# Altium integrated library Linear Technology Power Management Switching Regulator LTC1174-LTC3901.IntLib: 2647 symbols (part 46 of 364)
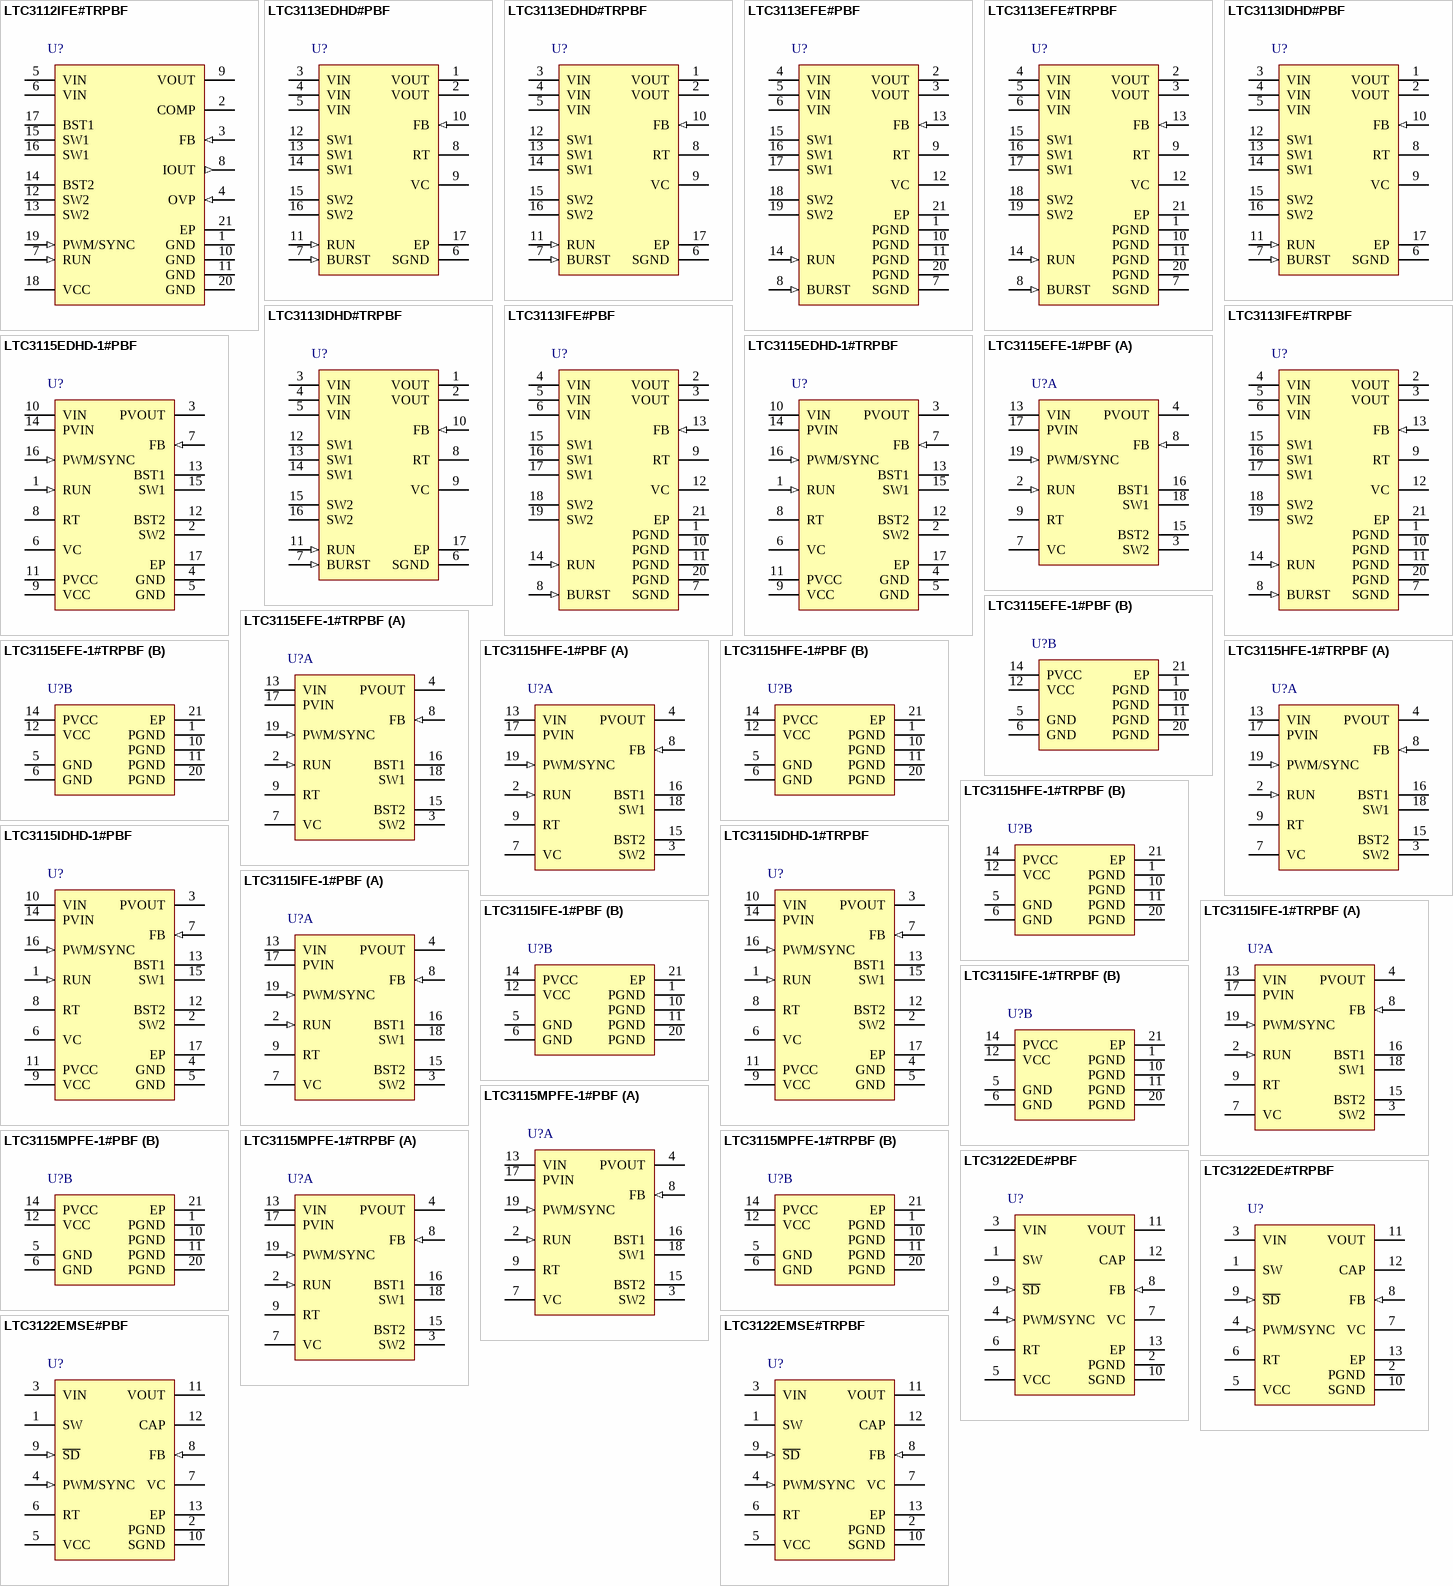
[diagram p139: symbols LTC3112IFE#TRPBF to LTC3122EMSE#TRPBF]

## LTC3113EDHD#PBF
designator U?
3 A Low Noise Buck-Boost DC/DC Converter, 16-pin SON (DHD-16), -40 to 125 degC, Pb-Free; Manufacturer: Linear Technology; PartNumber: LTC3113EDHD#PBF; Frequency Sync Range: 300kHz - 2MHz; Number of Outputs: 1; PackageVersion: Jun-10; PackageReference: DHD-16; PackageDescription: 16-Pin Plastic DFN, Body 5 x 4 mm, Pitch 0.5 mm; Supplier 1: Digi-Key; Supplier Part Number 1: LTC3113EDHD#PBF-ND; Supplier 2: Newark; Supplier Part Number 2: 27T5813; RoHS: TRUE; Mounting Technology: Surface Mount; Code_JEDEC: MO-229; ComponentLink1Description: Manufacturer URL; ComponentLink1URL: http://www.linear.com/; ComponentLink2Description: Datasheet; ComponentLink2URL: http://cds.linear.com/docs/en/datasheet/3113f.pdf; ComponentLink3Description: Package Specification; ComponentLink3URL: http://cds.linear.com/docs/en/packaging/DFN_16_05-08-1707.pdf
footprint LT-DHD-16_V (SON, 16-Leads, Body 5x4mm, Pitch 0.5mm, Thermal Pad 4.34x2.44mm)
pins: 1 VOUT (power) "Buck-Boost Output Voltage. A low ESR capacitor should be placed from VOUT to PGND. The capacitor should be placed as close to the IC as possible and have a short return path to ground.", 2 VOUT (power) "Buck-Boost Output Voltage. A low ESR capacitor should be placed from VOUT to PGND. The capacitor should be placed as close to the IC as possible and have a short return path to ground.", 3 VIN (power) "Power Input for the Converter. A 47uF or larger bypass capacitor should be connected between VIN and PGND. The bypass capacitor should located as close to VIN and PGND as possible and should via directly to the ground plane.", 4 VIN (power) "Power Input for the Converter. A 47uF or larger bypass capacitor should be connected between VIN and PGND. The bypass capacitor should located as close to VIN and PGND as possible and should via directly to the ground plane.", 5 VIN (power) "Power Input for the Converter. A 47uF or larger bypass capacitor should be connected between VIN and PGND. The bypass capacitor should located as close to VIN and PGND as possible and should via directly to the ground plane.", 6 SGND (power) "Signal Ground. Terminate the frequency setting resistor and output voltage divider to SGND.", 7 BURST (in) "Pulse Width Modulation/Burst Mode Selection Input. Forcing this pin low causes the switching converter to operate in low noise fixed frequency PWM mode. Forcing this pin high enables constant Burst Mode operation for the (See Datasheet)", 8 RT "Programs the Frequency of the Internal Oscillator. Connect a resistor from RT to ground (SGND). The RT resistor value for a given frequency is given by the following equation.", 9 VC "Error Amp Output. An R-C network is connected from this pin to FB for loop compensation. Refer to the Closing the Feedback Loop section for component selection guidelines.", 10 FB (in) "Feedback Voltage for the Buck-Boost Converter Derived from a Resistor Divider on the Buck- Boost Output Voltage. The buck-boost output voltage is given by the following equation:VOUT = 0.600(1+ R2/R1) (V),where R1 is a (See Datasheet)", 11 RUN (in) "Active High Converter Enable Input. Applying a voltage <0.3V to this pin shuts down the LTC3113. Applying a voltage >1.2V to this pin enables the LTC3113.", 12 SW1 "Switch Pin Where Internal Switches A and B are Connected. Connect the inductor from SW1 to SW2. Minimize trace length to reduce EMI.", 13 SW1 "Switch Pin Where Internal Switches A and B are Connected. Connect the inductor from SW1 to SW2. Minimize trace length to reduce EMI.", 14 SW1 "Switch Pin Where Internal Switches A and B are Connected. Connect the inductor from SW1 to SW2. Minimize trace length to reduce EMI.", 15 SW2 "Switch Pin Where Internal Switches C and D are Connected. Connect the inductor from SW1 to SW2. Minimize trace length to reduce EMI.", 16 SW2 "Switch Pin Where Internal Switches C and D are Connected. Connect the inductor from SW1 to SW2. Minimize trace length to reduce EMI.", 17 EP (power) "The exposed pad must be soldered to the PCB and electrically connected to ground through the shortest and lowest impedance connection possible. In most applications the bulk of the heat flow out of the LTC3113 is through (See Datasheet)"

## LTC3113EDHD#TRPBF
designator U?
3 A Low Noise Buck-Boost DC/DC Converter, 16-pin SON (DHD-16), -40 to 125 degC, Pb-Free, Tape and Reel; Manufacturer: Linear Technology; PartNumber: LTC3113EDHD#TRPBF; Frequency Sync Range: 300kHz - 2MHz; Number of Outputs: 1; PackageVersion: Jun-10; PackageReference: DHD-16; PackageDescription: 16-Pin Plastic DFN, Body 5 x 4 mm, Pitch 0.5 mm; Supplier 1: Digi-Key; Supplier Part Number 1: LTC3113EDHD#TRPBF-ND; Supplier 2: Newark; Supplier Part Number 2: 27T5814; Packing: Tape and Reel; RoHS: TRUE; Mounting Technology: Surface Mount; Code_JEDEC: MO-229; ComponentLink1Description: Manufacturer URL; ComponentLink1URL: http://www.linear.com/; ComponentLink2Description: Datasheet; ComponentLink2URL: http://cds.linear.com/docs/en/datasheet/3113f.pdf; ComponentLink3Description: Package Specification; ComponentLink3URL: http://cds.linear.com/docs/en/packaging/DFN_16_05-08-1707.pdf
footprint LT-DHD-16_V (SON, 16-Leads, Body 5x4mm, Pitch 0.5mm, Thermal Pad 4.34x2.44mm)
pins: 1 VOUT (power) "Buck-Boost Output Voltage. A low ESR capacitor should be placed from VOUT to PGND. The capacitor should be placed as close to the IC as possible and have a short return path to ground.", 2 VOUT (power) "Buck-Boost Output Voltage. A low ESR capacitor should be placed from VOUT to PGND. The capacitor should be placed as close to the IC as possible and have a short return path to ground.", 3 VIN (power) "Power Input for the Converter. A 47uF or larger bypass capacitor should be connected between VIN and PGND. The bypass capacitor should located as close to VIN and PGND as possible and should via directly to the ground plane.", 4 VIN (power) "Power Input for the Converter. A 47uF or larger bypass capacitor should be connected between VIN and PGND. The bypass capacitor should located as close to VIN and PGND as possible and should via directly to the ground plane.", 5 VIN (power) "Power Input for the Converter. A 47uF or larger bypass capacitor should be connected between VIN and PGND. The bypass capacitor should located as close to VIN and PGND as possible and should via directly to the ground plane.", 6 SGND (power) "Signal Ground. Terminate the frequency setting resistor and output voltage divider to SGND.", 7 BURST (in) "Pulse Width Modulation/Burst Mode Selection Input. Forcing this pin low causes the switching converter to operate in low noise fixed frequency PWM mode. Forcing this pin high enables constant Burst Mode operation for the (See Datasheet)", 8 RT "Programs the Frequency of the Internal Oscillator. Connect a resistor from RT to ground (SGND). The RT resistor value for a given frequency is given by the following equation.", 9 VC "Error Amp Output. An R-C network is connected from this pin to FB for loop compensation. Refer to the Closing the Feedback Loop section for component selection guidelines.", 10 FB (in) "Feedback Voltage for the Buck-Boost Converter Derived from a Resistor Divider on the Buck- Boost Output Voltage. The buck-boost output voltage is given by the following equation:VOUT = 0.600(1+ R2/R1) (V),where R1 is a (See Datasheet)", 11 RUN (in) "Active High Converter Enable Input. Applying a voltage <0.3V to this pin shuts down the LTC3113. Applying a voltage >1.2V to this pin enables the LTC3113.", 12 SW1 "Switch Pin Where Internal Switches A and B are Connected. Connect the inductor from SW1 to SW2. Minimize trace length to reduce EMI.", 13 SW1 "Switch Pin Where Internal Switches A and B are Connected. Connect the inductor from SW1 to SW2. Minimize trace length to reduce EMI.", 14 SW1 "Switch Pin Where Internal Switches A and B are Connected. Connect the inductor from SW1 to SW2. Minimize trace length to reduce EMI.", 15 SW2 "Switch Pin Where Internal Switches C and D are Connected. Connect the inductor from SW1 to SW2. Minimize trace length to reduce EMI.", 16 SW2 "Switch Pin Where Internal Switches C and D are Connected. Connect the inductor from SW1 to SW2. Minimize trace length to reduce EMI.", 17 EP (power) "The exposed pad must be soldered to the PCB and electrically connected to ground through the shortest and lowest impedance connection possible. In most applications the bulk of the heat flow out of the LTC3113 is through (See Datasheet)"

## LTC3113EFE#PBF
designator U?
3 A Low Noise Buck-Boost DC/DC Converter, 20-pin SOP (FE-20-EPV-CA), -40 to 125 degC, Pb-Free; Manufacturer: Linear Technology; PartNumber: LTC3113EFE#PBF; Frequency Sync Range: 300kHz - 2MHz; Number of Outputs: 1; PackageVersion: Rev. I, 05/2011; PackageReference: FE-20; PackageDescription: 20-Pin Plastic TSSOP, Body 6.5 x 4.4 mm, Pitch 0.65 mm; Supplier 1: Digi-Key; Supplier Part Number 1: LTC3113EFE#PBF-ND; Supplier 2: Newark; Supplier Part Number 2: 27T5815; RoHS: TRUE; Mounting Technology: Surface Mount; ComponentLink1Description: Manufacturer URL; ComponentLink1URL: http://www.linear.com/; ComponentLink2Description: Datasheet; ComponentLink2URL: http://cds.linear.com/docs/en/datasheet/3113f.pdf; ComponentLink3Description: Package Specification; ComponentLink3URL: http://cds.linear.com/docs/en/packaging/05081663__JFE20(CA).pdf
footprint LT-FE-20-EPV-CA_N (SOP, 20-Leads, Body 6.6x4.5mm, Pitch 0.65mm, Thermal Pad 4.95x2.74mm, IPC Medium Density)
footprint LT-FE-20-EPV-CA_L (SOP, 20-Leads, Body 6.6x4.5mm, Pitch 0.65mm, Thermal Pad 4.95x2.74mm, IPC High Density)
footprint LT-FE-20-EPV-CA_M (SOP, 20-Leads, Body 6.6x4.5mm, Pitch 0.65mm, Thermal Pad 4.95x2.74mm, IPC Low Density)
pins: 1 PGND (power) "In most applications the bulk of the heat flow out of the LTC3113 is through this pad, so printed circuit board design has an impact on the thermal performance of the part. See the PCB Layout and Thermal Considerations (See Datasheet)", 2 VOUT (power) "Buck-Boost Output Voltage. A low ESR capacitor should be placed from VOUT to PGND. The capacitor should be placed as close to the IC as possible and have a short return path to ground.", 3 VOUT (power) "Buck-Boost Output Voltage. A low ESR capacitor should be placed from VOUT to PGND. The capacitor should be placed as close to the IC as possible and have a short return path to ground.", 4 VIN (power) "Power Input for the Converter. A 47uF or larger bypass capacitor should be connected between VIN and PGND. The bypass capacitor should located as close to VIN and PGND as possible and should via directly to the ground plane.", 5 VIN (power) "Power Input for the Converter. A 47uF or larger bypass capacitor should be connected between VIN and PGND. The bypass capacitor should located as close to VIN and PGND as possible and should via directly to the ground plane.", 6 VIN (power) "Power Input for the Converter. A 47uF or larger bypass capacitor should be connected between VIN and PGND. The bypass capacitor should located as close to VIN and PGND as possible and should via directly to the ground plane.", 7 SGND (power) "Signal Ground. Terminate the frequency setting resistor and output voltage divider to SGND.", 8 BURST (in) "Pulse Width Modulation/Burst Mode Selection Input. Forcing this pin low causes the switching converter to operate in low noise fixed frequency PWM mode. Forcing this pin high enables constant Burst Mode operation for the (See Datasheet)", 9 RT "Programs the Frequency of the Internal Oscillator. Connect a resistor from RT to ground (SGND). The RT resistor value for a given frequency is given by the following equation.", 10 PGND (power) "In most applications the bulk of the heat flow out of the LTC3113 is through this pad, so printed circuit board design has an impact on the thermal performance of the part. See the PCB Layout and Thermal Considerations (See Datasheet)", 11 PGND (power) "In most applications the bulk of the heat flow out of the LTC3113 is through this pad, so printed circuit board design has an impact on the thermal performance of the part. See the PCB Layout and Thermal Considerations (See Datasheet)", 12 VC "Error Amp Output. An R-C network is connected from this pin to FB for loop compensation. Refer to the Closing the Feedback Loop section for component selection guidelines.", 13 FB (in) "Feedback Voltage for the Buck-Boost Converter Derived from a Resistor Divider on the Buck- Boost Output Voltage. where R1 is a resistor connected between FB and SGND, and R2 is a resistor connected between FB and VOUT . The (See Datasheet)", 14 RUN (in) "Active High Converter Enable Input. Applying a voltage <0.3V to this pin shuts down the LTC3113. Applying a voltage >1.2V to this pin enables the LTC3113.", 15 SW1 "Switch Pin Where Internal Switches A and B are Connected. Connect the inductor from SW1 to SW2. Minimize trace length to reduce EMI.", 16 SW1 "Switch Pin Where Internal Switches A and B are Connected. Connect the inductor from SW1 to SW2. Minimize trace length to reduce EMI.", 17 SW1 "Switch Pin Where Internal Switches A and B are Connected. Connect the inductor from SW1 to SW2. Minimize trace length to reduce EMI.", 18 SW2 "Switch Pin Where Internal Switches C and D are Connected. Connect the inductor from SW1 to SW2. Minimize trace length to reduce EMI.", 19 SW2 "Switch Pin Where Internal Switches C and D are Connected. Connect the inductor from SW1 to SW2. Minimize trace length to reduce EMI.", 20 PGND (power) "In most applications the bulk of the heat flow out of the LTC3113 is through this pad, so printed circuit board design has an impact on the thermal performance of the part. See the PCB Layout and Thermal Considerations (See Datasheet)", 21 EP (power) "The exposed pad must be soldered to the PCB and electrically connected to ground through the shortest and lowest impedance connection possible."

## LTC3113EFE#TRPBF
designator U?
3 A Low Noise Buck-Boost DC/DC Converter, 20-pin SOP (FE-20-EPV-CA), -40 to 125 degC, Pb-Free, Tape and Reel; Manufacturer: Linear Technology; PartNumber: LTC3113EFE#TRPBF; Frequency Sync Range: 300kHz - 2MHz; Number of Outputs: 1; PackageVersion: Rev. I, 05/2011; PackageReference: FE-20; PackageDescription: 20-Pin Plastic TSSOP, Body 6.5 x 4.4 mm, Pitch 0.65 mm; Supplier 1: Digi-Key; Supplier Part Number 1: LTC3113EFE#TRPBF-ND; Packing: Tape and Reel; RoHS: TRUE; Mounting Technology: Surface Mount; ComponentLink1Description: Manufacturer URL; ComponentLink1URL: http://www.linear.com/; ComponentLink2Description: Datasheet; ComponentLink2URL: http://cds.linear.com/docs/en/datasheet/3113f.pdf; ComponentLink3Description: Package Specification; ComponentLink3URL: http://cds.linear.com/docs/en/packaging/05081663__JFE20(CA).pdf
footprint LT-FE-20-EPV-CA_N (SOP, 20-Leads, Body 6.6x4.5mm, Pitch 0.65mm, Thermal Pad 4.95x2.74mm, IPC Medium Density)
footprint LT-FE-20-EPV-CA_L (SOP, 20-Leads, Body 6.6x4.5mm, Pitch 0.65mm, Thermal Pad 4.95x2.74mm, IPC High Density)
footprint LT-FE-20-EPV-CA_M (SOP, 20-Leads, Body 6.6x4.5mm, Pitch 0.65mm, Thermal Pad 4.95x2.74mm, IPC Low Density)
pins: 1 PGND (power) "In most applications the bulk of the heat flow out of the LTC3113 is through this pad, so printed circuit board design has an impact on the thermal performance of the part. See the PCB Layout and Thermal Considerations (See Datasheet)", 2 VOUT (power) "Buck-Boost Output Voltage. A low ESR capacitor should be placed from VOUT to PGND. The capacitor should be placed as close to the IC as possible and have a short return path to ground.", 3 VOUT (power) "Buck-Boost Output Voltage. A low ESR capacitor should be placed from VOUT to PGND. The capacitor should be placed as close to the IC as possible and have a short return path to ground.", 4 VIN (power) "Power Input for the Converter. A 47uF or larger bypass capacitor should be connected between VIN and PGND. The bypass capacitor should located as close to VIN and PGND as possible and should via directly to the ground plane.", 5 VIN (power) "Power Input for the Converter. A 47uF or larger bypass capacitor should be connected between VIN and PGND. The bypass capacitor should located as close to VIN and PGND as possible and should via directly to the ground plane.", 6 VIN (power) "Power Input for the Converter. A 47uF or larger bypass capacitor should be connected between VIN and PGND. The bypass capacitor should located as close to VIN and PGND as possible and should via directly to the ground plane.", 7 SGND (power) "Signal Ground. Terminate the frequency setting resistor and output voltage divider to SGND.", 8 BURST (in) "Pulse Width Modulation/Burst Mode Selection Input. Forcing this pin low causes the switching converter to operate in low noise fixed frequency PWM mode. Forcing this pin high enables constant Burst Mode operation for the (See Datasheet)", 9 RT "Programs the Frequency of the Internal Oscillator. Connect a resistor from RT to ground (SGND). The RT resistor value for a given frequency is given by the following equation.", 10 PGND (power) "In most applications the bulk of the heat flow out of the LTC3113 is through this pad, so printed circuit board design has an impact on the thermal performance of the part. See the PCB Layout and Thermal Considerations (See Datasheet)", 11 PGND (power) "In most applications the bulk of the heat flow out of the LTC3113 is through this pad, so printed circuit board design has an impact on the thermal performance of the part. See the PCB Layout and Thermal Considerations (See Datasheet)", 12 VC "Error Amp Output. An R-C network is connected from this pin to FB for loop compensation. Refer to the Closing the Feedback Loop section for component selection guidelines.", 13 FB (in) "Feedback Voltage for the Buck-Boost Converter Derived from a Resistor Divider on the Buck- Boost Output Voltage. where R1 is a resistor connected between FB and SGND, and R2 is a resistor connected between FB and VOUT . The (See Datasheet)", 14 RUN (in) "Active High Converter Enable Input. Applying a voltage <0.3V to this pin shuts down the LTC3113. Applying a voltage >1.2V to this pin enables the LTC3113.", 15 SW1 "Switch Pin Where Internal Switches A and B are Connected. Connect the inductor from SW1 to SW2. Minimize trace length to reduce EMI.", 16 SW1 "Switch Pin Where Internal Switches A and B are Connected. Connect the inductor from SW1 to SW2. Minimize trace length to reduce EMI.", 17 SW1 "Switch Pin Where Internal Switches A and B are Connected. Connect the inductor from SW1 to SW2. Minimize trace length to reduce EMI.", 18 SW2 "Switch Pin Where Internal Switches C and D are Connected. Connect the inductor from SW1 to SW2. Minimize trace length to reduce EMI.", 19 SW2 "Switch Pin Where Internal Switches C and D are Connected. Connect the inductor from SW1 to SW2. Minimize trace length to reduce EMI.", 20 PGND (power) "In most applications the bulk of the heat flow out of the LTC3113 is through this pad, so printed circuit board design has an impact on the thermal performance of the part. See the PCB Layout and Thermal Considerations (See Datasheet)", 21 EP (power) "The exposed pad must be soldered to the PCB and electrically connected to ground through the shortest and lowest impedance connection possible."

## LTC3113IDHD#PBF
designator U?
3 A Low Noise Buck-Boost DC/DC Converter, 16-pin SON (DHD-16), -40 to 125 degC, Pb-Free; Manufacturer: Linear Technology; PartNumber: LTC3113IDHD#PBF; Frequency Sync Range: 300kHz - 2MHz; Number of Outputs: 1; PackageVersion: Jun-10; PackageReference: DHD-16; PackageDescription: 16-Pin Plastic DFN, Body 5 x 4 mm, Pitch 0.5 mm; Supplier 1: Digi-Key; Supplier Part Number 1: LTC3113IDHD#PBF-ND; Supplier 2: Newark; Supplier Part Number 2: 27T5817; RoHS: TRUE; Mounting Technology: Surface Mount; Code_JEDEC: MO-229; ComponentLink1Description: Manufacturer URL; ComponentLink1URL: http://www.linear.com/; ComponentLink2Description: Datasheet; ComponentLink2URL: http://cds.linear.com/docs/en/datasheet/3113f.pdf; ComponentLink3Description: Package Specification; ComponentLink3URL: http://cds.linear.com/docs/en/packaging/DFN_16_05-08-1707.pdf
footprint LT-DHD-16_V (SON, 16-Leads, Body 5x4mm, Pitch 0.5mm, Thermal Pad 4.34x2.44mm)
pins: 1 VOUT (power) "Buck-Boost Output Voltage. A low ESR capacitor should be placed from VOUT to PGND. The capacitor should be placed as close to the IC as possible and have a short return path to ground.", 2 VOUT (power) "Buck-Boost Output Voltage. A low ESR capacitor should be placed from VOUT to PGND. The capacitor should be placed as close to the IC as possible and have a short return path to ground.", 3 VIN (power) "Power Input for the Converter. A 47uF or larger bypass capacitor should be connected between VIN and PGND. The bypass capacitor should located as close to VIN and PGND as possible and should via directly to the ground plane.", 4 VIN (power) "Power Input for the Converter. A 47uF or larger bypass capacitor should be connected between VIN and PGND. The bypass capacitor should located as close to VIN and PGND as possible and should via directly to the ground plane.", 5 VIN (power) "Power Input for the Converter. A 47uF or larger bypass capacitor should be connected between VIN and PGND. The bypass capacitor should located as close to VIN and PGND as possible and should via directly to the ground plane.", 6 SGND (power) "Signal Ground. Terminate the frequency setting resistor and output voltage divider to SGND.", 7 BURST (in) "Pulse Width Modulation/Burst Mode Selection Input. Forcing this pin low causes the switching converter to operate in low noise fixed frequency PWM mode. Forcing this pin high enables constant Burst Mode operation for the (See Datasheet)", 8 RT "Programs the Frequency of the Internal Oscillator. Connect a resistor from RT to ground (SGND). The RT resistor value for a given frequency is given by the following equation.", 9 VC "Error Amp Output. An R-C network is connected from this pin to FB for loop compensation. Refer to the Closing the Feedback Loop section for component selection guidelines.", 10 FB (in) "Feedback Voltage for the Buck-Boost Converter Derived from a Resistor Divider on the Buck- Boost Output Voltage. The buck-boost output voltage is given by the following equation:VOUT = 0.600(1+ R2/R1) (V),where R1 is a (See Datasheet)", 11 RUN (in) "Active High Converter Enable Input. Applying a voltage <0.3V to this pin shuts down the LTC3113. Applying a voltage >1.2V to this pin enables the LTC3113.", 12 SW1 "Switch Pin Where Internal Switches A and B are Connected. Connect the inductor from SW1 to SW2. Minimize trace length to reduce EMI.", 13 SW1 "Switch Pin Where Internal Switches A and B are Connected. Connect the inductor from SW1 to SW2. Minimize trace length to reduce EMI.", 14 SW1 "Switch Pin Where Internal Switches A and B are Connected. Connect the inductor from SW1 to SW2. Minimize trace length to reduce EMI.", 15 SW2 "Switch Pin Where Internal Switches C and D are Connected. Connect the inductor from SW1 to SW2. Minimize trace length to reduce EMI.", 16 SW2 "Switch Pin Where Internal Switches C and D are Connected. Connect the inductor from SW1 to SW2. Minimize trace length to reduce EMI.", 17 EP (power) "The exposed pad must be soldered to the PCB and electrically connected to ground through the shortest and lowest impedance connection possible. In most applications the bulk of the heat flow out of the LTC3113 is through (See Datasheet)"

## LTC3113IDHD#TRPBF
designator U?
3 A Low Noise Buck-Boost DC/DC Converter, 16-pin SON (DHD-16), -40 to 125 degC, Pb-Free, Tape and Reel; Manufacturer: Linear Technology; PartNumber: LTC3113IDHD#TRPBF; Frequency Sync Range: 300kHz - 2MHz; Number of Outputs: 1; PackageVersion: Jun-10; PackageReference: DHD-16; PackageDescription: 16-Pin Plastic DFN, Body 5 x 4 mm, Pitch 0.5 mm; Supplier 1: Digi-Key; Supplier Part Number 1: LTC3113IDHD#TRPBF-ND; Packing: Tape and Reel; RoHS: TRUE; Mounting Technology: Surface Mount; Code_JEDEC: MO-229; ComponentLink1Description: Manufacturer URL; ComponentLink1URL: http://www.linear.com/; ComponentLink2Description: Datasheet; ComponentLink2URL: http://cds.linear.com/docs/en/datasheet/3113f.pdf; ComponentLink3Description: Package Specification; ComponentLink3URL: http://cds.linear.com/docs/en/packaging/DFN_16_05-08-1707.pdf
footprint LT-DHD-16_V (SON, 16-Leads, Body 5x4mm, Pitch 0.5mm, Thermal Pad 4.34x2.44mm)
pins: 1 VOUT (power) "Buck-Boost Output Voltage. A low ESR capacitor should be placed from VOUT to PGND. The capacitor should be placed as close to the IC as possible and have a short return path to ground.", 2 VOUT (power) "Buck-Boost Output Voltage. A low ESR capacitor should be placed from VOUT to PGND. The capacitor should be placed as close to the IC as possible and have a short return path to ground.", 3 VIN (power) "Power Input for the Converter. A 47uF or larger bypass capacitor should be connected between VIN and PGND. The bypass capacitor should located as close to VIN and PGND as possible and should via directly to the ground plane.", 4 VIN (power) "Power Input for the Converter. A 47uF or larger bypass capacitor should be connected between VIN and PGND. The bypass capacitor should located as close to VIN and PGND as possible and should via directly to the ground plane.", 5 VIN (power) "Power Input for the Converter. A 47uF or larger bypass capacitor should be connected between VIN and PGND. The bypass capacitor should located as close to VIN and PGND as possible and should via directly to the ground plane.", 6 SGND (power) "Signal Ground. Terminate the frequency setting resistor and output voltage divider to SGND.", 7 BURST (in) "Pulse Width Modulation/Burst Mode Selection Input. Forcing this pin low causes the switching converter to operate in low noise fixed frequency PWM mode. Forcing this pin high enables constant Burst Mode operation for the (See Datasheet)", 8 RT "Programs the Frequency of the Internal Oscillator. Connect a resistor from RT to ground (SGND). The RT resistor value for a given frequency is given by the following equation.", 9 VC "Error Amp Output. An R-C network is connected from this pin to FB for loop compensation. Refer to the Closing the Feedback Loop section for component selection guidelines.", 10 FB (in) "Feedback Voltage for the Buck-Boost Converter Derived from a Resistor Divider on the Buck- Boost Output Voltage. The buck-boost output voltage is given by the following equation:VOUT = 0.600(1+ R2/R1) (V),where R1 is a (See Datasheet)", 11 RUN (in) "Active High Converter Enable Input. Applying a voltage <0.3V to this pin shuts down the LTC3113. Applying a voltage >1.2V to this pin enables the LTC3113.", 12 SW1 "Switch Pin Where Internal Switches A and B are Connected. Connect the inductor from SW1 to SW2. Minimize trace length to reduce EMI.", 13 SW1 "Switch Pin Where Internal Switches A and B are Connected. Connect the inductor from SW1 to SW2. Minimize trace length to reduce EMI.", 14 SW1 "Switch Pin Where Internal Switches A and B are Connected. Connect the inductor from SW1 to SW2. Minimize trace length to reduce EMI.", 15 SW2 "Switch Pin Where Internal Switches C and D are Connected. Connect the inductor from SW1 to SW2. Minimize trace length to reduce EMI.", 16 SW2 "Switch Pin Where Internal Switches C and D are Connected. Connect the inductor from SW1 to SW2. Minimize trace length to reduce EMI.", 17 EP (power) "The exposed pad must be soldered to the PCB and electrically connected to ground through the shortest and lowest impedance connection possible. In most applications the bulk of the heat flow out of the LTC3113 is through (See Datasheet)"

## LTC3113IFE#PBF
designator U?
3 A Low Noise Buck-Boost DC/DC Converter, 20-pin SOP (FE-20-EPV-CA), -40 to 125 degC, Pb-Free; Manufacturer: Linear Technology; PartNumber: LTC3113IFE#PBF; Frequency Sync Range: 300kHz - 2MHz; Number of Outputs: 1; PackageVersion: Rev. I, 05/2011; PackageReference: FE-20; PackageDescription: 20-Pin Plastic TSSOP, Body 6.5 x 4.4 mm, Pitch 0.65 mm; Supplier 1: Digi-Key; Supplier Part Number 1: LTC3113IFE#PBF-ND; RoHS: TRUE; Mounting Technology: Surface Mount; ComponentLink1Description: Manufacturer URL; ComponentLink1URL: http://www.linear.com/; ComponentLink2Description: Datasheet; ComponentLink2URL: http://cds.linear.com/docs/en/datasheet/3113f.pdf; ComponentLink3Description: Package Specification; ComponentLink3URL: http://cds.linear.com/docs/en/packaging/05081663__JFE20(CA).pdf
footprint LT-FE-20-EPV-CA_N (SOP, 20-Leads, Body 6.6x4.5mm, Pitch 0.65mm, Thermal Pad 4.95x2.74mm, IPC Medium Density)
footprint LT-FE-20-EPV-CA_L (SOP, 20-Leads, Body 6.6x4.5mm, Pitch 0.65mm, Thermal Pad 4.95x2.74mm, IPC High Density)
footprint LT-FE-20-EPV-CA_M (SOP, 20-Leads, Body 6.6x4.5mm, Pitch 0.65mm, Thermal Pad 4.95x2.74mm, IPC Low Density)
pins: 1 PGND (power) "In most applications the bulk of the heat flow out of the LTC3113 is through this pad, so printed circuit board design has an impact on the thermal performance of the part. See the PCB Layout and Thermal Considerations (See Datasheet)", 2 VOUT (power) "Buck-Boost Output Voltage. A low ESR capacitor should be placed from VOUT to PGND. The capacitor should be placed as close to the IC as possible and have a short return path to ground.", 3 VOUT (power) "Buck-Boost Output Voltage. A low ESR capacitor should be placed from VOUT to PGND. The capacitor should be placed as close to the IC as possible and have a short return path to ground.", 4 VIN (power) "Power Input for the Converter. A 47uF or larger bypass capacitor should be connected between VIN and PGND. The bypass capacitor should located as close to VIN and PGND as possible and should via directly to the ground plane.", 5 VIN (power) "Power Input for the Converter. A 47uF or larger bypass capacitor should be connected between VIN and PGND. The bypass capacitor should located as close to VIN and PGND as possible and should via directly to the ground plane.", 6 VIN (power) "Power Input for the Converter. A 47uF or larger bypass capacitor should be connected between VIN and PGND. The bypass capacitor should located as close to VIN and PGND as possible and should via directly to the ground plane.", 7 SGND (power) "Signal Ground. Terminate the frequency setting resistor and output voltage divider to SGND.", 8 BURST (in) "Pulse Width Modulation/Burst Mode Selection Input. Forcing this pin low causes the switching converter to operate in low noise fixed frequency PWM mode. Forcing this pin high enables constant Burst Mode operation for the (See Datasheet)", 9 RT "Programs the Frequency of the Internal Oscillator. Connect a resistor from RT to ground (SGND). The RT resistor value for a given frequency is given by the following equation.", 10 PGND (power) "In most applications the bulk of the heat flow out of the LTC3113 is through this pad, so printed circuit board design has an impact on the thermal performance of the part. See the PCB Layout and Thermal Considerations (See Datasheet)", 11 PGND (power) "In most applications the bulk of the heat flow out of the LTC3113 is through this pad, so printed circuit board design has an impact on the thermal performance of the part. See the PCB Layout and Thermal Considerations (See Datasheet)", 12 VC "Error Amp Output. An R-C network is connected from this pin to FB for loop compensation. Refer to the Closing the Feedback Loop section for component selection guidelines.", 13 FB (in) "Feedback Voltage for the Buck-Boost Converter Derived from a Resistor Divider on the Buck- Boost Output Voltage. where R1 is a resistor connected between FB and SGND, and R2 is a resistor connected between FB and VOUT . The (See Datasheet)", 14 RUN (in) "Active High Converter Enable Input. Applying a voltage <0.3V to this pin shuts down the LTC3113. Applying a voltage >1.2V to this pin enables the LTC3113.", 15 SW1 "Switch Pin Where Internal Switches A and B are Connected. Connect the inductor from SW1 to SW2. Minimize trace length to reduce EMI.", 16 SW1 "Switch Pin Where Internal Switches A and B are Connected. Connect the inductor from SW1 to SW2. Minimize trace length to reduce EMI.", 17 SW1 "Switch Pin Where Internal Switches A and B are Connected. Connect the inductor from SW1 to SW2. Minimize trace length to reduce EMI.", 18 SW2 "Switch Pin Where Internal Switches C and D are Connected. Connect the inductor from SW1 to SW2. Minimize trace length to reduce EMI.", 19 SW2 "Switch Pin Where Internal Switches C and D are Connected. Connect the inductor from SW1 to SW2. Minimize trace length to reduce EMI.", 20 PGND (power) "In most applications the bulk of the heat flow out of the LTC3113 is through this pad, so printed circuit board design has an impact on the thermal performance of the part. See the PCB Layout and Thermal Considerations (See Datasheet)", 21 EP (power) "The exposed pad must be soldered to the PCB and electrically connected to ground through the shortest and lowest impedance connection possible."

## LTC3113IFE#TRPBF
designator U?
3 A Low Noise Buck-Boost DC/DC Converter, 20-pin SOP (FE-20-EPV-CA), -40 to 125 degC, Pb-Free, Tape and Reel; Manufacturer: Linear Technology; PartNumber: LTC3113IFE#TRPBF; Frequency Sync Range: 300kHz - 2MHz; Number of Outputs: 1; PackageVersion: Rev. I, 05/2011; PackageReference: FE-20; PackageDescription: 20-Pin Plastic TSSOP, Body 6.5 x 4.4 mm, Pitch 0.65 mm; Supplier 1: Digi-Key; Supplier Part Number 1: LTC3113IFE#TRPBF-ND; Packing: Tape and Reel; RoHS: TRUE; Mounting Technology: Surface Mount; ComponentLink1Description: Manufacturer URL; ComponentLink1URL: http://www.linear.com/; ComponentLink2Description: Datasheet; ComponentLink2URL: http://cds.linear.com/docs/en/datasheet/3113f.pdf; ComponentLink3Description: Package Specification; ComponentLink3URL: http://cds.linear.com/docs/en/packaging/05081663__JFE20(CA).pdf
footprint LT-FE-20-EPV-CA_N (SOP, 20-Leads, Body 6.6x4.5mm, Pitch 0.65mm, Thermal Pad 4.95x2.74mm, IPC Medium Density)
footprint LT-FE-20-EPV-CA_L (SOP, 20-Leads, Body 6.6x4.5mm, Pitch 0.65mm, Thermal Pad 4.95x2.74mm, IPC High Density)
footprint LT-FE-20-EPV-CA_M (SOP, 20-Leads, Body 6.6x4.5mm, Pitch 0.65mm, Thermal Pad 4.95x2.74mm, IPC Low Density)
pins: 1 PGND (power) "In most applications the bulk of the heat flow out of the LTC3113 is through this pad, so printed circuit board design has an impact on the thermal performance of the part. See the PCB Layout and Thermal Considerations (See Datasheet)", 2 VOUT (power) "Buck-Boost Output Voltage. A low ESR capacitor should be placed from VOUT to PGND. The capacitor should be placed as close to the IC as possible and have a short return path to ground.", 3 VOUT (power) "Buck-Boost Output Voltage. A low ESR capacitor should be placed from VOUT to PGND. The capacitor should be placed as close to the IC as possible and have a short return path to ground.", 4 VIN (power) "Power Input for the Converter. A 47uF or larger bypass capacitor should be connected between VIN and PGND. The bypass capacitor should located as close to VIN and PGND as possible and should via directly to the ground plane.", 5 VIN (power) "Power Input for the Converter. A 47uF or larger bypass capacitor should be connected between VIN and PGND. The bypass capacitor should located as close to VIN and PGND as possible and should via directly to the ground plane.", 6 VIN (power) "Power Input for the Converter. A 47uF or larger bypass capacitor should be connected between VIN and PGND. The bypass capacitor should located as close to VIN and PGND as possible and should via directly to the ground plane.", 7 SGND (power) "Signal Ground. Terminate the frequency setting resistor and output voltage divider to SGND.", 8 BURST (in) "Pulse Width Modulation/Burst Mode Selection Input. Forcing this pin low causes the switching converter to operate in low noise fixed frequency PWM mode. Forcing this pin high enables constant Burst Mode operation for the (See Datasheet)", 9 RT "Programs the Frequency of the Internal Oscillator. Connect a resistor from RT to ground (SGND). The RT resistor value for a given frequency is given by the following equation.", 10 PGND (power) "In most applications the bulk of the heat flow out of the LTC3113 is through this pad, so printed circuit board design has an impact on the thermal performance of the part. See the PCB Layout and Thermal Considerations (See Datasheet)", 11 PGND (power) "In most applications the bulk of the heat flow out of the LTC3113 is through this pad, so printed circuit board design has an impact on the thermal performance of the part. See the PCB Layout and Thermal Considerations (See Datasheet)", 12 VC "Error Amp Output. An R-C network is connected from this pin to FB for loop compensation. Refer to the Closing the Feedback Loop section for component selection guidelines.", 13 FB (in) "Feedback Voltage for the Buck-Boost Converter Derived from a Resistor Divider on the Buck- Boost Output Voltage. where R1 is a resistor connected between FB and SGND, and R2 is a resistor connected between FB and VOUT . The (See Datasheet)", 14 RUN (in) "Active High Converter Enable Input. Applying a voltage <0.3V to this pin shuts down the LTC3113. Applying a voltage >1.2V to this pin enables the LTC3113.", 15 SW1 "Switch Pin Where Internal Switches A and B are Connected. Connect the inductor from SW1 to SW2. Minimize trace length to reduce EMI.", 16 SW1 "Switch Pin Where Internal Switches A and B are Connected. Connect the inductor from SW1 to SW2. Minimize trace length to reduce EMI.", 17 SW1 "Switch Pin Where Internal Switches A and B are Connected. Connect the inductor from SW1 to SW2. Minimize trace length to reduce EMI.", 18 SW2 "Switch Pin Where Internal Switches C and D are Connected. Connect the inductor from SW1 to SW2. Minimize trace length to reduce EMI.", 19 SW2 "Switch Pin Where Internal Switches C and D are Connected. Connect the inductor from SW1 to SW2. Minimize trace length to reduce EMI.", 20 PGND (power) "In most applications the bulk of the heat flow out of the LTC3113 is through this pad, so printed circuit board design has an impact on the thermal performance of the part. See the PCB Layout and Thermal Considerations (See Datasheet)", 21 EP (power) "The exposed pad must be soldered to the PCB and electrically connected to ground through the shortest and lowest impedance connection possible."

## LTC3115EDHD-1#PBF
designator U?
2 A Synchronous Buck-Boost DC/DC Converter, 16-pin SON (DHD-16), -40 to 125 degC, Pb-Free; Manufacturer: Linear Technology; PartNumber: LTC3115EDHD-1#PBF; Frequency Sync Range: 100kHz - 2MHz; Number of Outputs: 1; DatasheetVersion: Rev. A; PackageVersion: Jun-10; PackageReference: DHD-16; PackageDescription: 16-Pin Plastic DFN, Body 5 x 4 mm, Pitch 0.5 mm; Supplier 1: Digi-Key; Supplier Part Number 1: LTC3115EDHD-1#PBF-ND; Supplier 2: Farnell; Supplier Part Number 2: 2097958; Supplier 3: Newark; Supplier Part Number 3: 93T2021; RoHS: TRUE; Mounting Technology: Surface Mount; Code_JEDEC: MO-229; ComponentLink1Description: Manufacturer URL; ComponentLink1URL: http://www.linear.com/; ComponentLink2Description: Datasheet; ComponentLink2URL: http://cds.linear.com/docs/en/datasheet/31151fa.pdf; ComponentLink3Description: Package Specification; ComponentLink3URL: http://cds.linear.com/docs/en/packaging/DFN_16_05-08-1707.pdf
footprint LT-DHD-16_V (SON, 16-Leads, Body 5x4mm, Pitch 0.5mm, Thermal Pad 4.34x2.44mm)
pins: 1 RUN (in) "Input to Enable and Disable the IC and Set Custom Input UVLO Thresholds. The RUN pin can be driven by an external logic signal to enable and disable the IC. In addition, the voltage on this pin can be set by a resistor (See Datasheet)", 2 SW2 "Buck-Boost Converter Power Switch Pin. This pin should be connected to one side of the buckboost inductor.", 3 PVOUT (power) "Buck-Boost Converter Power Output. This pin should be connected to a low ESR capacitor with a value of at least 10uF. The capacitor should be placed as close to the IC as possible and should have a short return path to (See Datasheet)", 4 GND (power) "Signal Ground. These pins are the ground connections for the control circuitry of the IC and must be tied to ground in the application.", 5 GND (power) "Signal Ground. These pins are the ground connections for the control circuitry of the IC and must be tied to ground in the application.", 6 VC "Error Amplifier Output. A frequency compensation network must be connected between this pin and FB to stabilize the voltage control loop.", 7 FB (in) "Feedback Voltage Input. A resistor divider connected to this pin sets the output voltage for the buckboost converter. The nominal FB voltage is 1000mV. Care should be taken in the routing of connections to this pin in order (See Datasheet)", 8 RT "Oscillator Frequency Programming Pin. A resistor placed between this pin and ground sets the switching frequency of the buck-boost converter.", 9 VCC (power) "Low Voltage Supply Input for IC Control Circuitry. This pin powers internal IC control circuitry and must be connected to the PVCC pin in the application. A 4.7uF or larger bypass capacitor should be connected between this (See Datasheet)", 10 VIN (power) "Power Supply Connection for Internal Circuitry and the VCC Regulator. This pin provides power to the internal VCC regulator and is the input voltage sense connection for the VIN divider. A 0.1uF bypass capacitor should be (See Datasheet)", 11 PVCC (power) "Internal VCC Regulator Output. This pin is the output pin of the internal linear regulator that generates the VCC rail from VIN. The PVCC pin is also the supply connection for the power switch gate drivers. If the trace (See Datasheet)", 12 BST2 "Flying Capacitor Pin for SW2. This pin must be connected to SW2 through a 0.1uF capacitor. This pin is used to generate the gate drive rail for power switch D.", 13 BST1 "Flying Capacitor Pin for SW1. This pin must be connected to SW1 through a 0.1uF capacitor. This pin is used to generate the gate drive rail for power switch A.", 14 PVIN (power) "Power Input for the Buck-Boost Converter. A 4.7uF or larger bypass capacitor should be connected between this pin and ground. The bypass capacitor should be located as close to the IC as possible and should via directly down (See Datasheet)", 15 SW1 "Buck-Boost Converter Power Switch Pin. This pin should be connected to one side of the buckboost inductor", 16 PWM/SYNC (in) "Burst Mode/PWM Mode Control Pin and Synchronization Input. Forcing this pin high causes the IC to operate in fixed frequency PWM mode at all loads using the internal oscillator at the frequency set by the RT Pin. Forcing (See Datasheet)", 17 EP (power) "Power Ground Connections. These pins should be connected to the power ground in the application. The exposed pad is the power ground connection. It must be soldered to the PCB and electrically connected to ground through the (See Datasheet)"

## LTC3115EDHD-1#TRPBF
designator U?
2 A Synchronous Buck-Boost DC/DC Converter, 16-pin SON (DHD-16), -40 to 125 degC, Pb-Free, Tape and Reel; Manufacturer: Linear Technology; PartNumber: LTC3115EDHD-1#TRPBF; Frequency Sync Range: 100kHz - 2MHz; Number of Outputs: 1; DatasheetVersion: Rev. A; PackageVersion: Jun-10; PackageReference: DHD-16; PackageDescription: 16-Pin Plastic DFN, Body 5 x 4 mm, Pitch 0.5 mm; Supplier 1: Digi-Key; Supplier Part Number 1: LTC3115EDHD-1#TRPBF-ND; Supplier 2: Newark; Supplier Part Number 2: 94T2248; Packing: Tape and Reel; RoHS: TRUE; Mounting Technology: Surface Mount; Code_JEDEC: MO-229; ComponentLink1Description: Manufacturer URL; ComponentLink1URL: http://www.linear.com/; ComponentLink2Description: Datasheet; ComponentLink2URL: http://cds.linear.com/docs/en/datasheet/31151fa.pdf; ComponentLink3Description: Package Specification; ComponentLink3URL: http://cds.linear.com/docs/en/packaging/DFN_16_05-08-1707.pdf
footprint LT-DHD-16_V (SON, 16-Leads, Body 5x4mm, Pitch 0.5mm, Thermal Pad 4.34x2.44mm)
pins: 1 RUN (in) "Input to Enable and Disable the IC and Set Custom Input UVLO Thresholds. The RUN pin can be driven by an external logic signal to enable and disable the IC. In addition, the voltage on this pin can be set by a resistor (See Datasheet)", 2 SW2 "Buck-Boost Converter Power Switch Pin. This pin should be connected to one side of the buckboost inductor.", 3 PVOUT (power) "Buck-Boost Converter Power Output. This pin should be connected to a low ESR capacitor with a value of at least 10uF. The capacitor should be placed as close to the IC as possible and should have a short return path to (See Datasheet)", 4 GND (power) "Signal Ground. These pins are the ground connections for the control circuitry of the IC and must be tied to ground in the application.", 5 GND (power) "Signal Ground. These pins are the ground connections for the control circuitry of the IC and must be tied to ground in the application.", 6 VC "Error Amplifier Output. A frequency compensation network must be connected between this pin and FB to stabilize the voltage control loop.", 7 FB (in) "Feedback Voltage Input. A resistor divider connected to this pin sets the output voltage for the buckboost converter. The nominal FB voltage is 1000mV. Care should be taken in the routing of connections to this pin in order (See Datasheet)", 8 RT "Oscillator Frequency Programming Pin. A resistor placed between this pin and ground sets the switching frequency of the buck-boost converter.", 9 VCC (power) "Low Voltage Supply Input for IC Control Circuitry. This pin powers internal IC control circuitry and must be connected to the PVCC pin in the application. A 4.7uF or larger bypass capacitor should be connected between this (See Datasheet)", 10 VIN (power) "Power Supply Connection for Internal Circuitry and the VCC Regulator. This pin provides power to the internal VCC regulator and is the input voltage sense connection for the VIN divider. A 0.1uF bypass capacitor should be (See Datasheet)", 11 PVCC (power) "Internal VCC Regulator Output. This pin is the output pin of the internal linear regulator that generates the VCC rail from VIN. The PVCC pin is also the supply connection for the power switch gate drivers. If the trace (See Datasheet)", 12 BST2 "Flying Capacitor Pin for SW2. This pin must be connected to SW2 through a 0.1uF capacitor. This pin is used to generate the gate drive rail for power switch D.", 13 BST1 "Flying Capacitor Pin for SW1. This pin must be connected to SW1 through a 0.1uF capacitor. This pin is used to generate the gate drive rail for power switch A.", 14 PVIN (power) "Power Input for the Buck-Boost Converter. A 4.7uF or larger bypass capacitor should be connected between this pin and ground. The bypass capacitor should be located as close to the IC as possible and should via directly down (See Datasheet)", 15 SW1 "Buck-Boost Converter Power Switch Pin. This pin should be connected to one side of the buckboost inductor", 16 PWM/SYNC (in) "Burst Mode/PWM Mode Control Pin and Synchronization Input. Forcing this pin high causes the IC to operate in fixed frequency PWM mode at all loads using the internal oscillator at the frequency set by the RT Pin. Forcing (See Datasheet)", 17 EP (power) "Power Ground Connections. These pins should be connected to the power ground in the application. The exposed pad is the power ground connection. It must be soldered to the PCB and electrically connected to ground through the (See Datasheet)"